# Altium schematic symbol library SCH - AMP - TI LM4950TS_NOPB.Schlib: 1 symbol
Pins are listed as number, name and electrical type; pins without a type are passive.

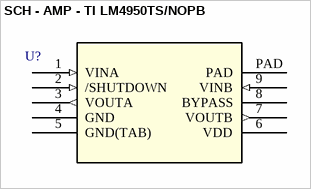
[diagram p0: symbol SCH - AMP - TI LM4950TS/NOPB]

## SCH - AMP - TI LM4950TS/NOPB
designator U?
Manufacturer_Part_Number: lm4950tsnopb; Vendor: National; Value: Value; Type: Type; RefDes: RefDes
footprint TS9A-L
pins: 1 VINA (in), 2 /SHUTDOWN (in), 3 VOUTA (out), 4 GND (power), 5 GND(TAB) (power), 6 VDD (power), 7 VOUTB (out), 8 BYPASS, 9 VINB (in), PAD